# EAGLE library part SLIDE (library BUTTON)
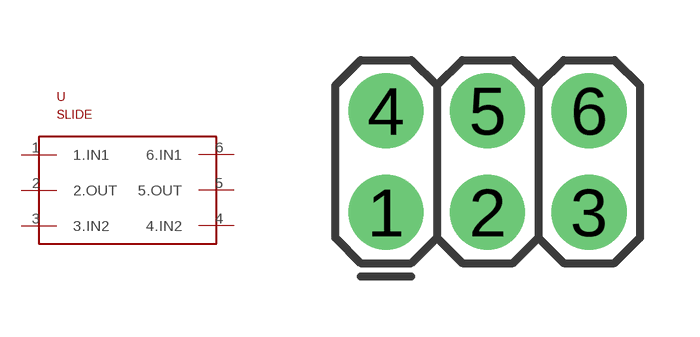
[diagram p8: symbol with the pads of 2X3; footprint 2X3]

Designator prefix -

## SLIDE  [2X3]
1  1.IN1
2  2.OUT
3  3.IN2
4  4.IN2
5  5.OUT
6  6.IN1

## Footprint 2X3 (pad centres in mm)
Plated Through Hole - 2x3 Specifications: Pin count:6 Pin pitch:0.1" Example device(s): CONN_03x2
drill 1.016 pad 1.88: 1 0,0; 2 2.54,0; 3 5.08,0; 4 0,2.54; 5 2.54,2.54; 6 5.08,2.54